# Altium footprint library GSM_M95.PcbLib: 1 footprints
Each footprint in its own frame and in the unit in brackets; x right, y up, seen from the top. Pads: shape width x height; smd on the part's side, far side on the other; paste and mask are expansions set on the pad; w line width, h text height; cw(c..) or ccw(c..) is an arc to the next point about the centre after c.
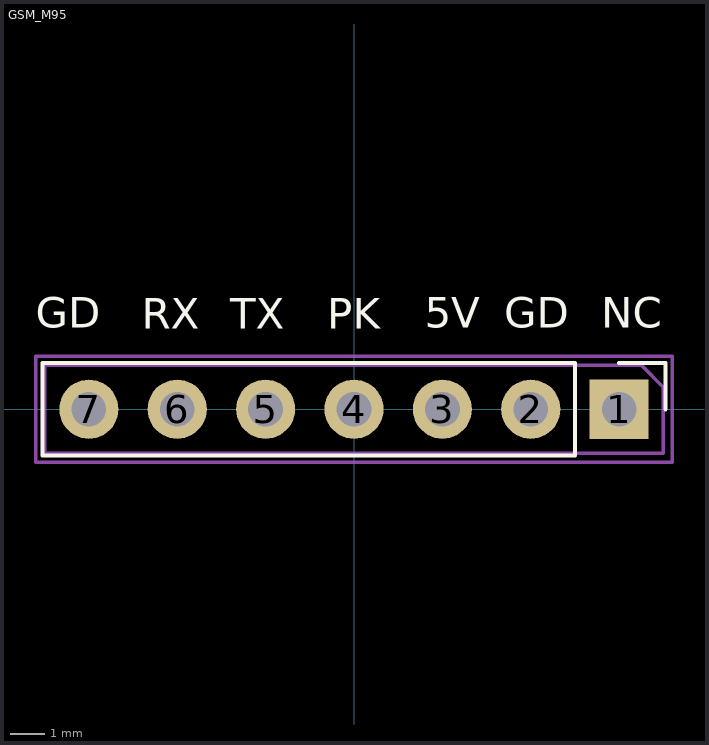
[diagram p0: the footprint, top view; thin cyan lines are the x and y axes]

## GSM_M95 [mm]
pads (7):
  rect 1.7x1.7 hole 1 paste-1.7 mask+0: 1(7.62,0)
  rrect100% 1.7x1.7 hole 1 paste-1.7 mask+0: 2(5.08,0) 3(2.54,0) 4(0,0) 5(-2.54,0) 6(-5.08,0) 7(-7.62,0)
Top Overlay:
  lines w0.12: 7.62,1.33 8.95,1.33 8.95,0 ; -8.95,-1.33 6.35,-1.33 6.35,1.33 -8.95,1.33 -8.95,-1.33
  text "GD" at -9.144,2.048 h1.5
  text "RX" at -6.096,2.032 h1.5
  text "TX" at -3.556,2.032 h1.5
  text "PK" at -0.762,2.032 h1.5
  text "5V" at 2.032,2.048 h1.5
  text "GD" at 4.318,2.048 h1.5
  text "NC" at 7.112,2.048 h1.5
Mechanical 1:
  lines w0.1: -9.144,-1.524 9.144,-1.524 9.144,1.524 -9.144,1.524 -9.144,-1.524 ; -8.89,-1.27 -8.89,1.27 8.255,1.27 8.89,0.635 8.89,-1.27 -8.89,-1.27
  text ".Designator" at 0,0.188 h1
Mechanical 15:
  text "+" at -1.166,-1.749 h3.5